# Altium schematic symbol library 功放IC.SchLib: 1 symbol
Pins are listed as number, name and electrical type; pins without a type are passive.

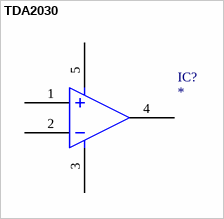
[diagram p0: symbol TDA2030]

## TDA2030
designator IC?
footprint TO-220-5V
pins: 1, 2, 3, 4, 5